# Altium footprint library PcbLib1.PcbLib: 15 footprints
Each footprint in its own frame and in the unit in brackets; x right, y up, seen from the top. Pads: shape width x height; smd on the part's side, far side on the other; paste and mask are expansions set on the pad; w line width, h text height; cw(c..) or ccw(c..) is an arc to the next point about the centre after c.
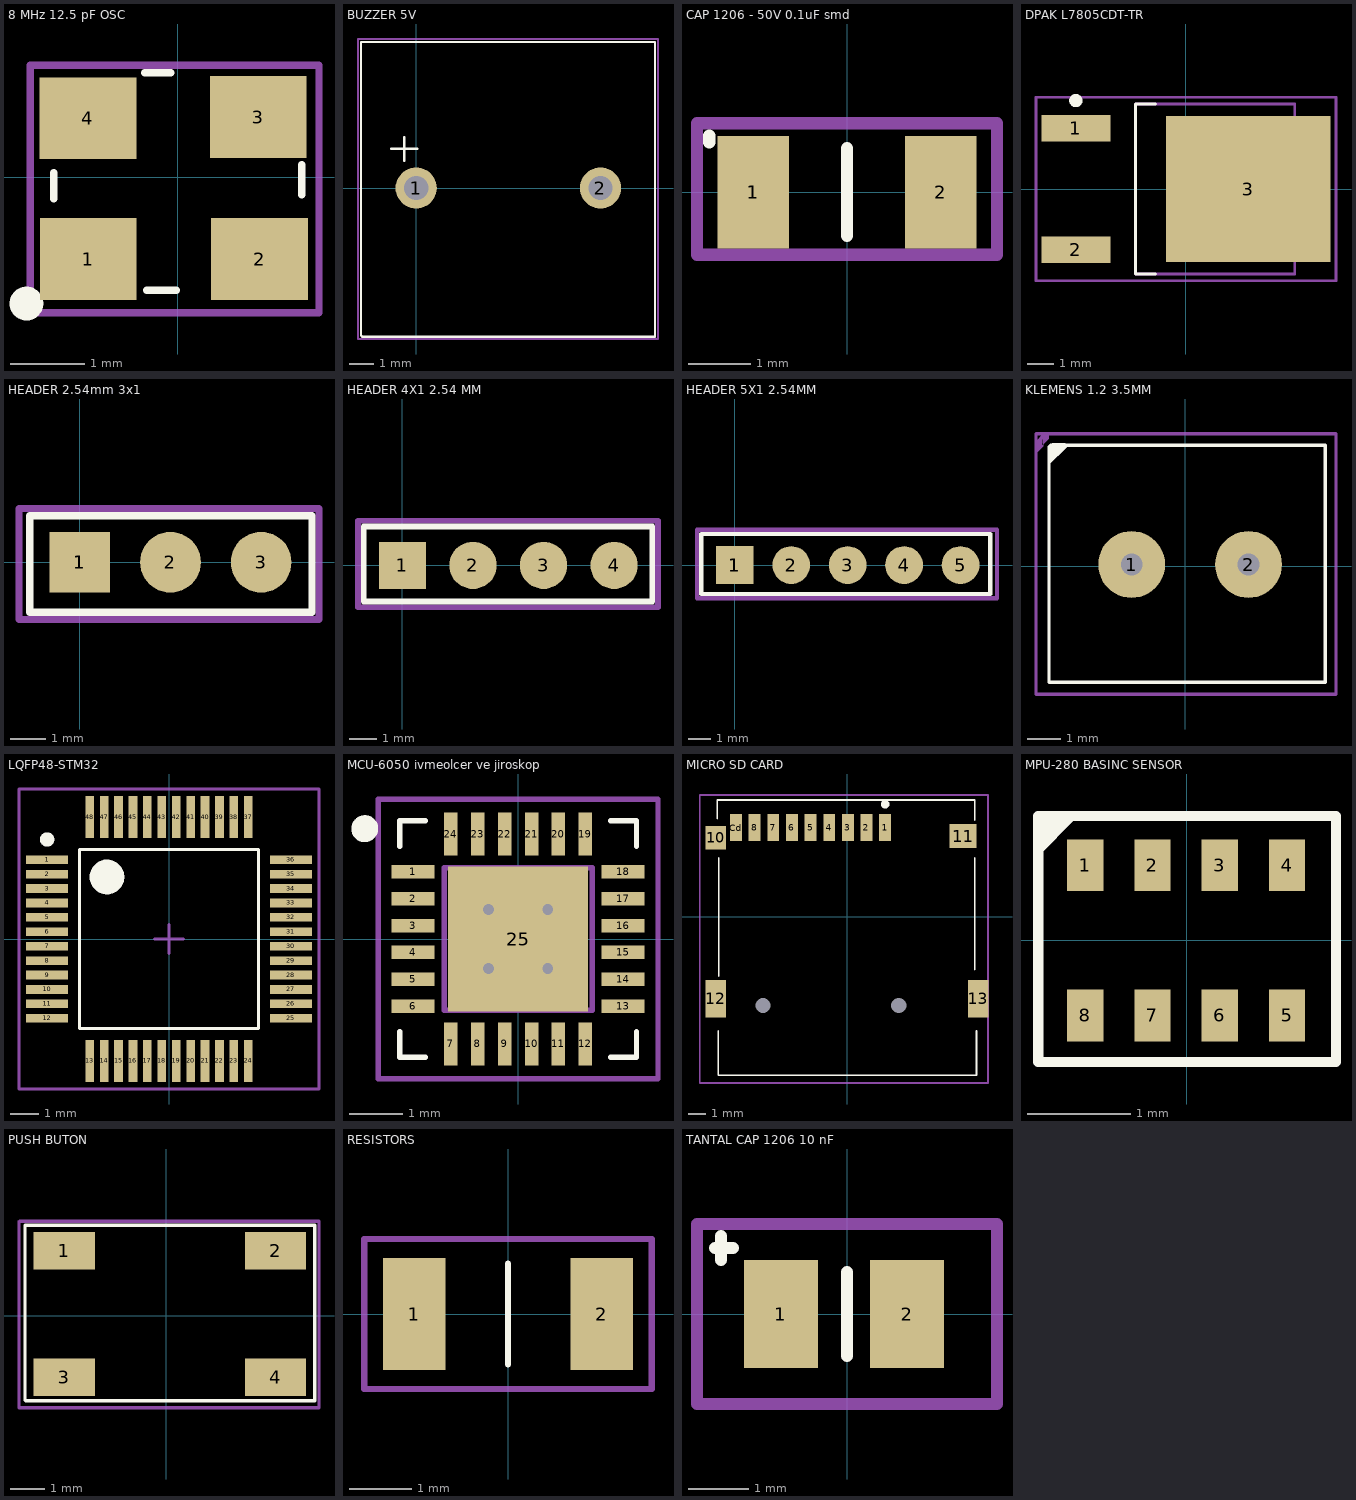
[diagram p0: the footprints below, top view; thin cyan lines are the x and y axes]

## 8 MHz 12.5 pF OSC [mm]
pads (4):
  rect 1.3x1.1 smd mask+0.05: 1(-1.202,-1.099) 2(1.098,-1.099) 3(1.082,0.809) 4(-1.207,0.792)
Top Overlay:
  circle w0.254: c-2.034,-1.697 r0.1
  lines w0.1: -1.666,-0.291 -1.666,0.063 ; -0.446,1.401 -0.092,1.401 ; -0.42,-1.52 -0.02,-1.52 ; 1.663,-0.233 1.663,0.167
Mechanical 3:
  circle w0.254: c-1.437,-1.133 r0.1
  lines w0.1: -1.982,-1.82 -1.982,1.504 1.897,1.504 1.897,-1.82 -1.982,-1.82
3D body "ASE3.STEP": height 1.22, standoff -0.03, extent -1.6,-1.25 1.6,1.25

## BUZZER 5V [mm]
pads (2):
  round 1.7 hole 1 mask+0.05: 1(0,0) 2(7.6,0)
Top Overlay:
  lines w0.1: -1.025,1.625 0.05,1.625 ; -0.5,1.125 -0.5,2.1 ; -2.275,-6.075 -2.225,-6.125 9.85,-6.125 9.85,6.025 -2.275,6.025 -2.275,-6.075
Mechanical 3:
  lines w0.1: -2.4,-6.225 9.975,-6.225 9.975,6.15 -2.4,6.15 -2.4,-6.225
3D body "cem-1205c.stp": height 9.5, standoff -4.5, extent -2.2,-6.05 9.8,5.95

## CAP 1206 - 50V 0.1uF smd [mm]
pads (3):
  rect 1.15x1.8 smd mask+0.05: 1(-1.5,0) 1(-1.5,0) 2(1.5,0)
Top Overlay:
  lines w0.2: -2.2,0.8 -2.2,0.9 ; 0,-0.7 0,0.7
Mechanical 3:
  lines w0.2: -2.4,-1 2.4,-1 2.4,1.1 -2.4,1.1 -2.4,-1
3D body "1206_Cap.step": height 1.25, standoff 0, extent -2.27,-0.8 2.27,0.8

## DPAK L7805CDT-TR [mm] "D-PAK, 3-Pads, Body 6,10x6,56mm (max), IPC Medium Density"
height 2.2
pads (3):
  rect 2.6x1 smd mask+0.05: 1(-4.15,2.28) 2(-4.15,-2.28)
  rect 6.2x5.5 smd: 3(2.35,0)
Top Overlay:
  circle w0.25: c-4.15,3.33 r0.125
  lines w0.1: -1.15,-3.2 -1.9,-3.2 -1.9,3.2 -1.15,3.2
Mechanical 3:
  lines w0.1: -0.5,0 0.5,0 ; 0,-0.5 0,0.5 ; -5.65,-3.45 5.65,-3.45 5.65,3.45 -5.65,3.45 -5.65,-3.45
Mechanical 13:
  lines w0.1: -1.9,-3.2 4.1,-3.2 4.1,3.2 -1.9,3.2 -1.9,-3.2
3D body: height 2.2, standoff 1, extent -1.9,-3.2 4.1,3.2

## HEADER 2.54mm 3x1 [mm]
pads (4):
  rect 1.7x1.7 smd mask+0.05: 1(0,0) 1(0,0)
  round 1.7 smd mask+0.05: 2(2.54,0) 3(5.08,0)
Top Overlay:
  lines w0.2: -1.4,-1.4 -1.4,1.3 6.5,1.3 6.5,-1.4 -1.4,-1.4
Mechanical 3:
  lines w0.2: -1.7,-1.6 -1.7,1.5 6.7,1.5 6.7,-1.6 -1.7,-1.6
3D body "User Library-ZL262-3SG 3x12.54 mm.step": height 9.1, standoff -2.45, extent -1.27,-1.27 6.35,1.23

## HEADER 4X1 2.54 MM [mm]
pads (4):
  rect 1.7x1.7 smd mask+0.05: 1(0,0)
  round 1.7 smd mask+0.05: 2(2.54,0) 3(5.08,0) 4(7.62,0)
Top Overlay:
  lines w0.2: -1.4,-1.3 -1.4,1.4 9,1.4 9,-1.3 -1.4,-1.3
Mechanical 3:
  lines w0.2: -1.6,-1.5 -1.6,1.6 9.2,1.6 9.2,-1.5 -1.6,-1.5
3D body "User Library-ZL262-4SG 4x1 2.54 mm.step": height 9.1, standoff -2.45, extent -1.3,-1.25 8.86,1.25

## HEADER 5X1 2.54MM [mm]
pads (6):
  rect 1.7x1.7 smd mask+0.05: 1(0,0) 1(0,0)
  round 1.7 smd mask+0.05: 2(2.54,0) 3(5.08,0) 4(7.62,0) 5(10.16,0)
Top Overlay:
  lines w0.2: -1.5,-1.3 11.5,-1.3 11.5,1.4 -1.5,1.4 -1.5,-1.3
Mechanical 3:
  lines w0.2: -1.7,-1.5 11.8,-1.5 11.8,1.6 -1.7,1.6 -1.7,-1.5
3D body "User Library-ZL262-5SG (1).step": height 9.1, standoff -2.45, extent -1.35,-1.2 11.35,1.3

## KLEMENS 1.2 3.5MM [mm]
pads (2):
  round 2 hole 0.65: 1(-1.6,0.05) 2(1.9,0.05)
Top Overlay:
  region: -3.533,3.582 -4.106,3.009 -4.106,3.544 -3.972,3.677 -3.593,3.677
  lines w0.1: -4.075,3.575 -4.075,-3.475 4.2,-3.475 4.2,3.625 -4.025,3.625
Mechanical 3:
  region: -4.248,3.96 -4.464,3.744 -4.464,3.961 -4.462,3.96 -4.248,3.96 -4.248,3.596 -4.462,3.382 -4.462,3.96 -4.248,3.96 -4.241,3.953 -4.082,3.953 -4.082,3.809 -4.285,3.607
  lines w0.1: -4.462,-3.822 -4.453,-3.831 4.517,-3.831 4.517,3.96 -4.248,3.96 -4.462,3.96 -4.462,-3.822
3D body "terminal_blocks_a-tb350-te02.stp": height 8.9, standoff -3.29, extent -3.9,-3.35 4.094,3.65

## LQFP48-STM32 [mm] "TSQFP, 48-Leads, Body 7,00x7,00mm, Pitch 0,50mm, IPC Medium Density"
height 1.45
pads (48):
  rect 1.45x0.3 smd mask+0.05: 1(-4.225,2.75) 2(-4.225,2.25) 3(-4.225,1.75) 4(-4.225,1.25) 5(-4.225,0.75) 6(-4.225,0.25) 7(-4.225,-0.25) 8(-4.225,-0.75) 9(-4.225,-1.25) 10(-4.225,-1.75) 11(-4.225,-2.25) 12(-4.225,-2.75) 25(4.225,-2.75) 26(4.225,-2.25) 27(4.225,-1.75) 28(4.225,-1.25) 29(4.225,-0.75) 30(4.225,-0.25) 31(4.225,0.25) 32(4.225,0.75) 33(4.225,1.25) 34(4.225,1.75) 35(4.225,2.25) 36(4.225,2.75)
  rect 0.3x1.45 smd mask+0.05: 13(-2.75,-4.225) 14(-2.25,-4.225) 15(-1.75,-4.225) 16(-1.25,-4.225) 17(-0.75,-4.225) 18(-0.25,-4.225) 19(0.25,-4.225) 20(0.75,-4.225) 21(1.25,-4.225) 22(1.75,-4.225) 23(2.25,-4.225) 24(2.75,-4.225) 37(2.75,4.225) 38(2.25,4.225) 39(1.75,4.225) 40(1.25,4.225) 41(0.75,4.225) 42(0.25,4.225) 43(-0.25,4.225) 44(-0.75,4.225) 45(-1.25,4.225) 46(-1.75,4.225) 47(-2.25,4.225) 48(-2.75,4.225)
Top Overlay:
  circle w0.6: c-2.15,2.15 r0.3
  circle w0.25: c-4.225,3.45 r0.125
  lines w0.1: -3.1,-3.1 3.1,-3.1 3.1,3.1 -3.1,3.1 -3.1,-3.1
Mechanical 3:
  lines w0.1: -0.5,0 0.5,0 ; 0,-0.5 0,0.5 ; -5.2,-5.2 5.2,-5.2 5.2,5.2 -5.2,5.2 -5.2,-5.2
3D body "LQFP48-STM32.step": height 1.45, standoff 0, extent -4.5,-4.5 4.5,4.5

## MCU-6050 ivmeolcer ve jiroskop [mm] "QFN, 24-Leads, Body 4,00x4,00mm, Pitch 0,50mm, Thermal Pad 2,60x2,70mm, IPC Medium Density"
height 0.9
pads (25):
  rect 0.8x0.25 smd mask+0.05: 1(-1.95,1.25) 2(-1.95,0.75) 3(-1.95,0.25) 4(-1.95,-0.25) 5(-1.95,-0.75) 6(-1.95,-1.25) 13(1.95,-1.25) 14(1.95,-0.75) 15(1.95,-0.25) 16(1.95,0.25) 17(1.95,0.75) 18(1.95,1.25)
  rect 0.25x0.8 smd mask+0.05: 7(-1.25,-1.95) 8(-0.75,-1.95) 9(-0.25,-1.95) 10(0.25,-1.95) 11(0.75,-1.95) 12(1.25,-1.95) 19(1.25,1.95) 20(0.75,1.95) 21(0.25,1.95) 22(-0.25,1.95) 23(-0.75,1.95) 24(-1.25,1.95)
  rect 2.6x2.7 smd: 25(0,0)
via -0.55,0.55 diameter 0.5 hole 0.2
via 0.55,0.55 diameter 0.5 hole 0.2
via -0.55,-0.55 diameter 0.5 hole 0.2
via 0.55,-0.55 diameter 0.5 hole 0.2
Top Overlay:
  circle w0.25: c-2.85,2.05 r0.125
  lines w0.1: -2.2,-1.725 -2.2,-2.2 -1.725,-2.2 ; -2.2,1.725 -2.2,2.2 -1.725,2.2 ; 1.725,-2.2 2.2,-2.2 2.2,-1.725 ; 1.725,2.2 2.2,2.2 2.2,1.725
Mechanical 3:
  lines w0.1: -0.5,0 0.5,0 ; 0,-0.5 0,0.5 ; -2.6,-2.6 -2.6,2.6 2.6,2.6 2.6,-2.6 -2.6,-2.6
Mechanical 13:
  circle w0.1: c-0.475,0.425 r0.5
  lines w0.1: -1.375,-1.325 -1.375,1.325 1.375,1.325 1.375,-1.325 -1.375,-1.325
3D body "QFN50P400X400X90_HS-25N.step": height 0.9, standoff 0, extent -2.07,-2.07 2.07,2.07

## MICRO SD CARD [mm]
pads (15):
  rect 0.7x1.6 smd paste+0 mask+0: 1(2.25,5.25) 2(1.15,5.25) 3(0.05,5.25) 4(-1.05,5.25) 5(-2.15,5.25) 6(-3.25,5.25) 7(-4.35,5.25) 8(-5.45,5.25) Cd(-6.55,5.25)
  rect 1.2x1.4 smd paste+0 mask+0: 10(-7.75,4.65)
  rect 1.6x1.4 smd paste+0 mask+0: 11(6.85,4.75)
  rect 1.2x2.2 smd paste+0 mask+0: 12(-7.75,-4.85) 13(7.75,-4.85)
  round 0 hole 0.9 unplated paste-1000 mask+0: ""(-4.95,-5.25) ""(3.05,-5.25)
Top Overlay:
  circle w0.25: c2.25,6.625 r0.125
  lines w0.1: -7.659,5.775 -7.659,6.875 7.541,6.875 7.541,5.675 ; -7.591,-6.75 -7.591,-9.373 7.641,-9.373 7.641,-6.75 ; -7.559,-3.525 -7.559,3.475 ; 7.541,-3.125 7.541,3.475
Mechanical 3:
  lines w0.1: -8.684,-9.825 -8.684,7.175 -8.184,7.175 8.066,7.175 8.316,7.175 8.316,-9.825 -8.684,-9.825
3D body "User Library-MEM2055-00-190-01-A_revG.step": height 1.85, standoff -0.6, extent -8.001,-9.245 7.999,6.005

## MPU-280 BASINC SENSOR [mm]
pads (8):
  rect 0.35x0.5 smd mask+0.05: 1(-0.982,0.725) 2(-0.332,0.725) 3(0.318,0.725) 4(0.968,0.725) 5(0.968,-0.725) 6(0.318,-0.725) 7(-0.332,-0.725) 8(-0.982,-0.725)
Top Overlay:
  region: -1.052,1.201 -1.457,0.796 -1.457,1.18 -1.436,1.201
  lines w0.1: -1.436,-1.175 -1.436,1.201 1.442,1.201 1.442,-1.175 -1.436,-1.175
3D body "User Library-BMP280.step": height 0.95, standoff -0.01, extent -1.25,-1 1.25,1

## PUSH BUTON [mm] "P?"
pads (4):
  rect 1.8x1.1 smd mask+0.05: 1(-3,1.9) 2(3.2,1.9) 3(-3,-1.8) 4(3.2,-1.8)
Top Overlay:
  lines w0.1: -4.15,-2.475 -4.15,2.65 4.35,2.65 4.35,-2.5 -4.125,-2.5
Mechanical 3:
  lines w0.1: -4.325,-2.7 -4.325,2.75 -4.3,2.775 4.475,2.775 4.475,-2.7 -4.325,-2.7
3D body "User Library-4x4_SMD_Switch.step": height 1.5, standoff 0, extent -3.2,-2.6 3.2,2.6

## RESISTORS [mm]
pads (2):
  rect 1x1.8 smd mask+0.05: 1(-1.5,0) 2(1.5,0)
Top Overlay:
  lines w0.1: 0,-0.805 0,0.805
Mechanical 3:
  lines w0.1: -2.3,-1.2 -2.3,1.2 2.3,1.2 2.3,-1.2 -2.3,-1.2
3D body "1206RES.step": height 0.55, standoff 0, extent -1.6,-0.805 1.6,0.805

## TANTAL CAP 1206 10 nF [mm]
pads (2):
  rect 1.23x1.8 smd mask+0.05: 1(-1.1,0) 2(1,0)
Top Overlay:
  lines w0.2: -2.2,1.1 -1.9,1.1 ; -2.1,0.9 -2.1,1.3 ; 0,-0.7 0,0 0,0.7
Mechanical 3:
  lines w0.2: -1.5,0.4 -1.1,0.4 ; -1.3,0.2 -1.3,0.6 ; -2.5,-1.5 2.4,-1.5 2.5,-1.5 2.5,1.5 2.2,1.5 -2.1,1.5 -2.5,1.5 -2.5,-1.1 -2.5,-1.5
3D body "case a CAP 1206 10nF.step": height 1.55, standoff -0.11, extent -1.782,-0.787 1.681,0.813